# Altium schematic symbol library MEMORY.SchLib: 2 symbols
Pins are listed as number, name and electrical type; pins without a type are passive.

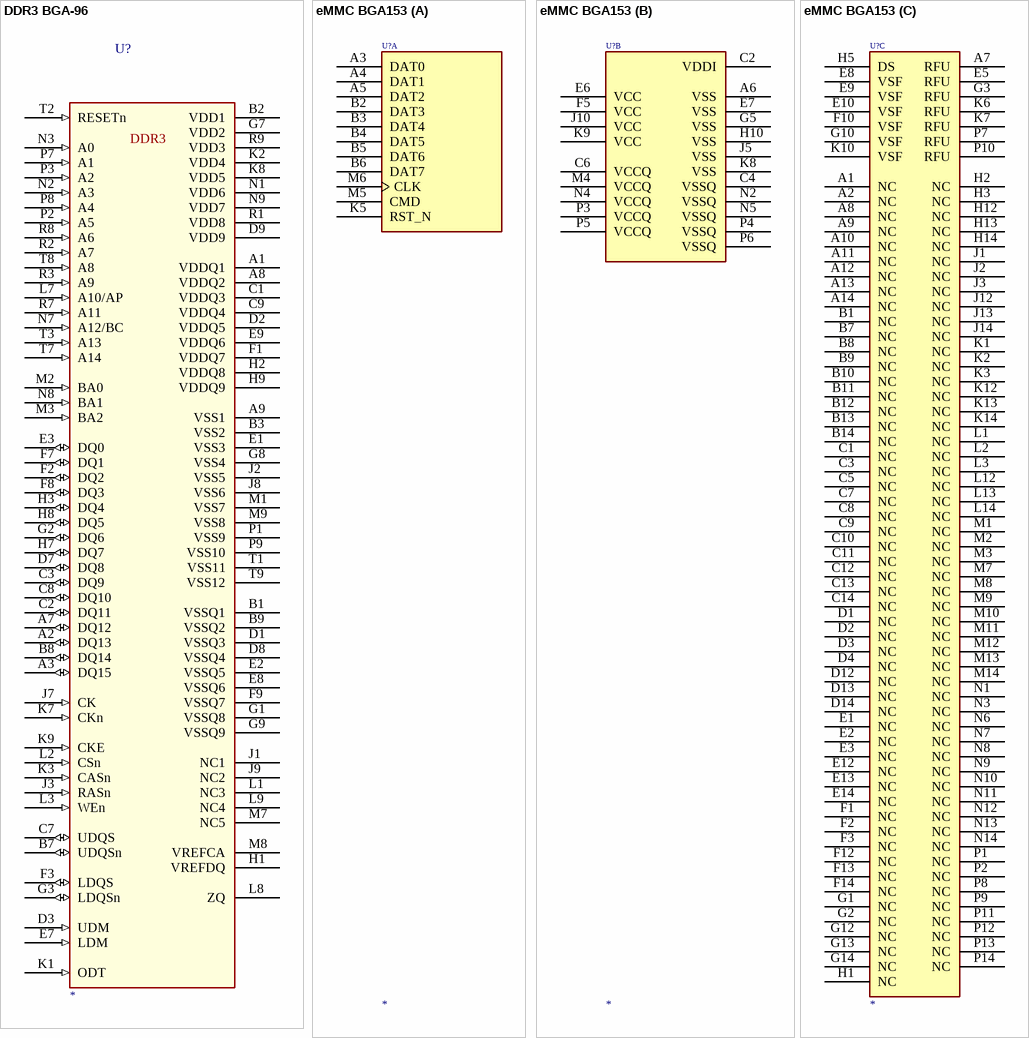
[diagram p0: symbols DDR3 BGA-96 to eMMC BGA153]

## DDR3 BGA-96
designator U?
SDRAM DDR3 96-FBGA; Manufacturer Part Number: *
pins: A1 VDDQ1 (power), A2 DQ13 (io), A3 DQ15 (io), A7 DQ12 (io), A8 VDDQ2 (power), A9 VSS1 (power), B1 VSSQ1 (power), B2 VDD1 (power), B3 VSS2 (power), B7 UDQSn (io), B8 DQ14 (io), B9 VSSQ2 (power), C1 VDDQ3 (power), C2 DQ11 (io), C3 DQ9 (io), C7 UDQS (io), C8 DQ10 (io), C9 VDDQ4 (power), D1 VSSQ3 (power), D2 VDDQ5 (power), D3 UDM (in), D7 DQ8 (io), D8 VSSQ4 (power), D9 VDD9 (power), E1 VSS3 (power), E2 VSSQ5 (power), E3 DQ0 (io), E7 LDM (in), E8 VSSQ6 (power), E9 VDDQ6 (power), F1 VDDQ7 (power), F2 DQ2 (io), F3 LDQS (io), F7 DQ1 (io), F8 DQ3 (io), F9 VSSQ7 (power), G1 VSSQ8 (power), G2 DQ6 (io), G3 LDQSn (io), G7 VDD2 (power), G8 VSS4 (power), G9 VSSQ9 (power), H1 VREFDQ (power), H2 VDDQ8 (power), H3 DQ4 (io), H7 DQ7 (io), H8 DQ5 (io), H9 VDDQ9 (power), J1 NC1, J2 VSS5 (power), J3 RASn (in), J7 CK (in), J8 VSS6 (power), J9 NC2, K1 ODT (in), K2 VDD4 (power), K3 CASn (in), K7 CKn (in), K8 VDD5 (power), K9 CKE (in), L1 NC3, L2 CSn (in), L3 WEn (in), L7 A10/AP (in), L8 ZQ, L9 NC4, M1 VSS7 (power), M2 BA0 (in), M3 BA2 (in), M7 NC5, M8 VREFCA (power), M9 VSS8 (power), N1 VDD6 (power), N2 A3 (in), N3 A0 (in), N7 A12/BC (in), N8 BA1 (in), N9 VDD7 (power), P1 VSS9 (power), P2 A5 (in), P3 A2 (in), P7 A1 (in), P8 A4 (in), P9 VSS10 (power), R1 VDD8 (power), R2 A7 (in), R3 A9 (in), R7 A11 (in), R8 A6 (in), R9 VDD3 (power), T1 VSS11 (power), T2 RESETn (in), T3 A13 (in), T7 A14 (in), T8 A8 (in), T9 VSS12 (power)
text: DDR3

## eMMC BGA153
designator U?
Manufacturer Part Number: *
part A pins: A3 DAT0 "Data I/O: These are bidirectional data signals. The DAT signals operate in push-pull mode. By default, after power-on or assertion of the RST_n signal, only DAT0 is used for data transfer. The MMC controller can configure a (See Datasheet)", A4 DAT1 "Data I/O: These are bidirectional data signals. The DAT signals operate in push-pull mode. By default, after power-on or assertion of the RST_n signal, only DAT0 is used for data transfer. The MMC controller can configure a (See Datasheet)", A5 DAT2 "Data I/O: These are bidirectional data signals. The DAT signals operate in push-pull mode. By default, after power-on or assertion of the RST_n signal, only DAT0 is used for data transfer. The MMC controller can configure a (See Datasheet)", B2 DAT3 "Data I/O: These are bidirectional data signals. The DAT signals operate in push-pull mode. By default, after power-on or assertion of the RST_n signal, only DAT0 is used for data transfer. The MMC controller can configure a (See Datasheet)", B3 DAT4 "Data I/O: These are bidirectional data signals. The DAT signals operate in push-pull mode. By default, after power-on or assertion of the RST_n signal, only DAT0 is used for data transfer. The MMC controller can configure a (See Datasheet)", B4 DAT5 "Data I/O: These are bidirectional data signals. The DAT signals operate in push-pull mode. By default, after power-on or assertion of the RST_n signal, only DAT0 is used for data transfer. The MMC controller can configure a (See Datasheet)", B5 DAT6 "Data I/O: These are bidirectional data signals. The DAT signals operate in push-pull mode. By default, after power-on or assertion of the RST_n signal, only DAT0 is used for data transfer. The MMC controller can configure a (See Datasheet)", B6 DAT7 "Data I/O: These are bidirectional data signals. The DAT signals operate in push-pull mode. By default, after power-on or assertion of the RST_n signal, only DAT0 is used for data transfer. The MMC controller can configure a (See Datasheet)", K5 RST_N "Reset: The RST_n signal is used by the host for resetting the device, moving the device to the preidle state. By default, the RST_n signal is temporarily disabled in the device. The host must set ECSD register byte 162, (See Datasheet)", M5 CMD "Command: This signal is a bidirectional command channel used for command and response transfers. The CMD signal has two bus modes: open-drain mode and push-pull mode (see Operating Modes). Commands are sent from the MMC host (See Datasheet)", M6 CLK "Clock: Each cycle of the clock directs a transfer on the command line and on the data line(s). The frequency can vary between the minimum and the maximum clock frequency."
part B pins: A6 VSS "Reserved for future use: No internal connection is present. Leave it floating externally.", C2 VDDI "Internal voltage node: At least a 0.1uF capacitor is required to connect VDDIM to ground. A 1uF capacitor is recommended. Do not tie to supply voltage or ground.", C4 VSSQ "VSSQ: e·MMC controller core and e·MMC I/F ground connection.", C6 VCCQ "VCCQ: e·MMC controller core and e·MMC I/F I/O power supply.", E6 VCC "VCC: NAND interface (I/F) I/O and NAND Flash power supply.", E7 VSS "VSS: NAND I/F I/O and NAND Flash ground connection.", F5 VCC "VCC: NAND interface (I/F) I/O and NAND Flash power supply.", G5 VSS "VSS: NAND I/F I/O and NAND Flash ground connection.", H10 VSS "VSS: NAND I/F I/O and NAND Flash ground connection.", J5 VSS "Reserved for future use: No internal connection is present. Leave it floating externally.", J10 VCC "VCC: NAND interface (I/F) I/O and NAND Flash power supply.", K8 VSS "VSS: NAND I/F I/O and NAND Flash ground connection.", K9 VCC "VCC: NAND interface (I/F) I/O and NAND Flash power supply.", M4 VCCQ "VCCQ: e·MMC controller core and e·MMC I/F I/O power supply.", N2 VSSQ "VSSQ: e·MMC controller core and e·MMC I/F ground connection.", N4 VCCQ "VCCQ: e·MMC controller core and e·MMC I/F I/O power supply.", N5 VSSQ "VSSQ: e·MMC controller core and e·MMC I/F ground connection.", P3 VCCQ "VCCQ: e·MMC controller core and e·MMC I/F I/O power supply.", P4 VSSQ "VSSQ: e·MMC controller core and e·MMC I/F ground connection.", P5 VCCQ "VCCQ: e·MMC controller core and e·MMC I/F I/O power supply.", P6 VSSQ "VSSQ: e·MMC controller core and e·MMC I/F ground connection."
part C pins: A1 NC "No connect: No internal connection is present.", A2 NC "No connect: No internal connection is present.", A7 RFU "Reserved for future use: No internal connection is present. Leave it floating externally.", A8 NC "No connect: No internal connection is present.", A9 NC "No connect: No internal connection is present.", A10 NC "No connect: No internal connection is present.", A11 NC "No connect: No internal connection is present.", A12 NC "No connect: No internal connection is present.", A13 NC "No connect: No internal connection is present.", A14 NC "No connect: No internal connection is present.", B1 NC "No connect: No internal connection is present.", B7 NC "No connect: No internal connection is present.", B8 NC "No connect: No internal connection is present.", B9 NC "No connect: No internal connection is present.", B10 NC "No connect: No internal connection is present.", B11 NC "No connect: No internal connection is present.", B12 NC "No connect: No internal connection is present.", B13 NC "No connect: No internal connection is present.", B14 NC "No connect: No internal connection is present.", C1 NC "No connect: No internal connection is present.", C3 NC "No connect: No internal connection is present.", C5 NC "Reserved for future use: No internal connection is present. Leave it floating externally.", C7 NC "No connect: No internal connection is present.", C8 NC "No connect: No internal connection is present.", C9 NC "No connect: No internal connection is present.", C10 NC "No connect: No internal connection is present.", C11 NC "No connect: No internal connection is present.", C12 NC "No connect: No internal connection is present.", C13 NC "No connect: No internal connection is present.", C14 NC "No connect: No internal connection is present.", D1 NC "No connect: No internal connection is present.", D2 NC "No connect: No internal connection is present.", D3 NC "No connect: No internal connection is present.", D4 NC "No connect: No internal connection is present.", D12 NC "No connect: No internal connection is present.", D13 NC "No connect: No internal connection is present.", D14 NC "No connect: No internal connection is present.", E1 NC "No connect: No internal connection is present.", E2 NC "No connect: No internal connection is present.", E3 NC "No connect: No internal connection is present.", E5 RFU "Reserved for future use: No internal connection is present. Leave it floating externally.", E8 VSF "Reserved for future use: No internal connection is present. Leave it floating externally.", E9 VSF "Reserved for future use: No internal connection is present. Leave it floating externally.", E10 VSF "Reserved for future use: No internal connection is present. Leave it floating externally.", E12 NC "No connect: No internal connection is present.", E13 NC "No connect: No internal connection is present.", E14 NC "No connect: No internal connection is present.", F1 NC "No connect: No internal connection is present.", F2 NC "No connect: No internal connection is present.", F3 NC "No connect: No internal connection is present.", F10 VSF "Reserved for future use: No internal connection is present. Leave it floating externally.", F12 NC "No connect: No internal connection is present.", F13 NC "No connect: No internal connection is present.", F14 NC "No connect: No internal connection is present.", G1 NC "No connect: No internal connection is present.", G2 NC "No connect: No internal connection is present.", G3 RFU "Reserved for future use: No internal connection is present. Leave it floating externally.", G10 VSF "Reserved for future use: No internal connection is present. Leave it floating externally.", G12 NC "No connect: No internal connection is present.", G13 NC "No connect: No internal connection is present.", G14 NC "No connect: No internal connection is present.", H1 NC "No connect: No internal connection is present.", H2 NC "No connect: No internal connection is present.", H3 NC "No connect: No internal connection is present.", H5 DS "Reserved for future use: No internal connection is present. Leave it floating externally.", H12 NC "No connect: No internal connection is present.", H13 NC "No connect: No internal connection is present.", H14 NC "No connect: No internal connection is present.", J1 NC "No connect: No internal connection is present.", J2 NC "No connect: No internal connection is present.", J3 NC "No connect: No internal connection is present.", J12 NC "No connect: No internal connection is present.", J13 NC "No connect: No internal connection is present.", J14 NC "No connect: No internal connection is present.", K1 NC "No connect: No internal connection is present.", K2 NC "No connect: No internal connection is present.", K3 NC "No connect: No internal connection is present.", K6 RFU "Reserved for future use: No internal connection is present. Leave it floating externally.", K7 RFU "Reserved for future use: No internal connection is present. Leave it floating externally.", K10 VSF "Reserved for future use: No internal connection is present. Leave it floating externally.", K12 NC "No connect: No internal connection is present.", K13 NC "No connect: No internal connection is present.", K14 NC "No connect: No internal connection is present.", L1 NC "No connect: No internal connection is present.", L2 NC "No connect: No internal connection is present.", L3 NC "No connect: No internal connection is present.", L12 NC "No connect: No internal connection is present.", L13 NC "No connect: No internal connection is present.", L14 NC "No connect: No internal connection is present.", M1 NC "No connect: No internal connection is present.", M2 NC "No connect: No internal connection is present.", M3 NC "No connect: No internal connection is present.", M7 NC "No connect: No internal connection is present.", M8 NC "No connect: No internal connection is present.", M9 NC "No connect: No internal connection is present.", M10 NC "No connect: No internal connection is present.", M11 NC "No connect: No internal connection is present.", M12 NC "No connect: No internal connection is present.", M13 NC "No connect: No internal connection is present.", M14 NC "No connect: No internal connection is present.", N1 NC "No connect: No internal connection is present.", N3 NC "No connect: No internal connection is present.", N6 NC "No connect: No internal connection is present.", N7 NC "No connect: No internal connection is present.", N8 NC "No connect: No internal connection is present.", N9 NC "No connect: No internal connection is present.", N10 NC "No connect: No internal connection is present.", N11 NC "No connect: No internal connection is present.", N12 NC "No connect: No internal connection is present.", N13 NC "No connect: No internal connection is present.", N14 NC "No connect: No internal connection is present.", P1 NC "No connect: No internal connection is present.", P2 NC "No connect: No internal connection is present.", P7 RFU "Reserved for future use: No internal connection is present. Leave it floating externally.", P8 NC "No connect: No internal connection is present.", P9 NC "No connect: No internal connection is present.", P10 RFU "Reserved for future use: No internal connection is present. Leave it floating externally.", P11 NC "No connect: No internal connection is present.", P12 NC "No connect: No internal connection is present.", P13 NC "No connect: No internal connection is present.", P14 NC "No connect: No internal connection is present."